# Altium schematic symbol library 98.8k 0603 RES.SchLib: 1 symbol
Pins are listed as number, name and electrical type; pins without a type are passive.

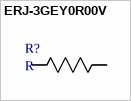
[diagram p0: symbol ERJ-3GEY0R00V]

## ERJ-3GEY0R00V
designator R?, comment R
Imported; Manufacturer Part Number: ERJ-3GEY0R00V; Vendor: Panasonic; Built_By: EMA_UL_Team; Value: 98.8k; C: Copyright (C) 2015 Accelerated Designs. All rights reserved; RefDes: RefDes; Type: DEV
footprint RC0603N
footprint RC0603N-M
pins: 1, 2